# Altium schematic symbol library RF_Mixer.SchLib: 8 symbols
Pins are listed as number, name and electrical type; pins without a type are passive.

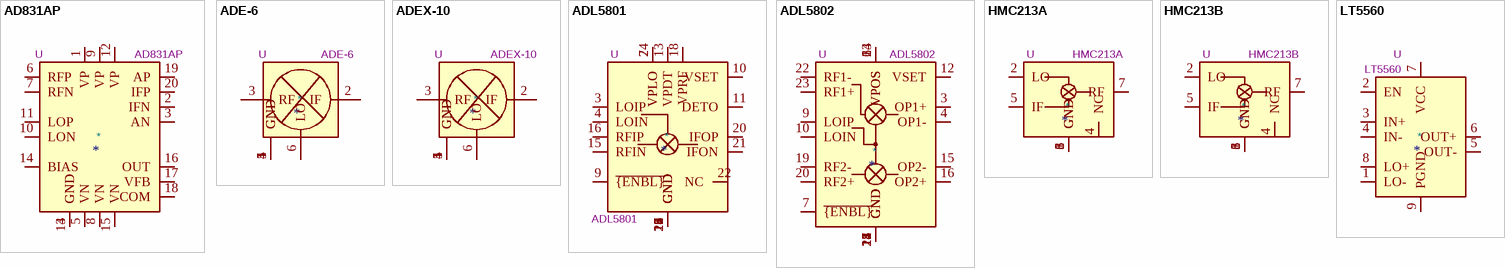
[diagram p0: symbols AD831AP to LT5560]

## AD831AP
designator *  value AD831AP  Reference: U
Doubly Balanced monolithic Mixer, 500 MHz BW, +24 dBm, IP3, LNA and LO driver, PLCC-20; ki_keywords: mixer rf; ki_fp_filters: PLCC*; Footprint: Package_LCC:PLCC-20; Datasheet: https://www.analog.com/media/en/technical-documentation/data-sheets/AD831.pdf; Description_: Doubly Balanced monolithic Mixer, 500 MHz BW, +24 dBm, IP3, LNA and LO driver, PLCC-20
pins: 1 VP, 2 IFN, 3 AN, 4 GND, 5 VN, 6 RFP, 7 RFN, 8 VN, 9 VP, 10 LON, 11 LOP, 12 VP, 13 GND, 14 BIAS, 15 VN, 16 OUT, 17 VFB, 18 COM, 19 AP, 20 IFP

## ADE-6
designator *  value ADE-6  Reference: U
Mixer, +7 dBm LO, 0.05 to 250 MHz, CD542; ki_keywords: mixer rf; ki_fp_filters: Mini?Circuits*CD542*; Footprint: RF_Mini-Circuits:Mini-Circuits_CD542_LandPatternPL-052; Datasheet: https://www.minicircuits.com/pdfs/ADE-6.pdf; Description_: Mixer, +7 dBm LO, 0.05 to 250 MHz, CD542
pins: 1 GND, 2 IF, 3 RF, 4 GND, 5 GND, 6 LO

## ADEX-10
designator *  value ADEX-10  Reference: U
Mixer, +7 dBm LO, 10 to 1000 MHz, CD542; ki_keywords: mixer rf; ki_fp_filters: Mini?Circuits*CD542*; Footprint: RF_Mini-Circuits:Mini-Circuits_CD542_LandPatternPL-052; Datasheet: https://www.minicircuits.com/pdfs/ADEX-10.pdf; Description_: Mixer, +7 dBm LO, 10 to 1000 MHz, CD542
pins: 1 GND, 2 IF, 3 RF, 4 GND, 5 GND, 6 LO

## ADL5801
designator *  value ADL5801  Reference: U
10 MHz to 6 GHz Active Mixer, LFCSP-24; ki_keywords: mixer active; ki_fp_filters: LFCSP*1EP*4x4mm*P0.5mm*; Footprint: Package_CSP:LFCSP-VQ-24-1EP_4x4mm_P0.5mm_EP2.642x2.642mm; Datasheet: https://www.analog.com/media/en/technical-documentation/data-sheets/ADL5801.pdf; Description_: 10 MHz to 6 GHz Active Mixer, LFCSP-24
pins: 1 GND, 2 GND, 3 LOIP, 4 LOIN, 5 GND, 6 GND, 7 VPLO, 8 GND, 9 ~{{ENBL}}, 10 VSET, 11 DETO, 12 GND, 13 VPDT, 14 GND, 15 RFIN, 16 RFIP, 17 GND, 18 VPRF, 19 GND, 20 IFOP, 21 IFON, 22 NC, 23 GND, 24 VPLO, 25 GND

## ADL5802
designator *  value ADL5802  Reference: U
100 MHz to 6 GHz Dual Channel Active Mixer, LFCSP-24; ki_keywords: mixer rf; ki_fp_filters: LFCSP*1EP*4x4mm*P0.5mm*; Footprint: Package_CSP:LFCSP-24-1EP_4x4mm_P0.5mm_EP2.5x2.5mm; Datasheet: https://www.analog.com/media/en/technical-documentation/data-sheets/ADL5802.pdf; Description_: 100 MHz to 6 GHz Dual Channel Active Mixer, LFCSP-24
pins: 1 GND, 2 GND, 3 OP1+, 4 OP1-, 5 GND, 6 VPOS, 7 ~{{ENBL}}, 8 GND, 9 LOIP, 10 LOIN, 11 GND, 12 VSET, 13 VPOS, 14 GND, 15 OP2-, 16 OP2+, 17 GND, 18 GND, 19 RF2-, 20 RF2+, 21 GND, 22 RF1-, 23 RF1+, 24 VPOS, 25 GND

## HMC213A
designator *  value HMC213A  Reference: U
1.5-4.5GHz double-balanced mixer, MS8; ki_keywords: mixer active; ki_fp_filters: MSOP*3x3mm*P0.65mm*; Footprint: Package_SO:MSOP-8_3x3mm_P0.65mm; Datasheet: https://www.analog.com/media/en/technical-documentation/data-sheets/hmc213a.pdf; Description_: 1.5-4.5GHz double-balanced mixer, MS8
pins: 1 GND, 2 LO, 3 GND, 4 NC, 5 IF, 6 GND, 7 RF, 8 GND

## HMC213B
designator *  value HMC213B  Reference: U
1.5-4.5GHz double-balanced mixer, MS8; ki_keywords: mixer active; ki_fp_filters: MSOP*3x3mm*P0.65mm*; Footprint: Package_SO:MSOP-8_3x3mm_P0.65mm; Datasheet: https://www.analog.com/media/en/technical-documentation/data-sheets/hmc213B.pdf; Description_: 1.5-4.5GHz double-balanced mixer, MS8
pins: 1 GND, 2 LO, 3 GND, 4 NC, 5 IF, 6 GND, 7 RF, 8 GND

## LT5560
designator *  value LT5560  Reference: U
0.01MHz to 4GHz Low Power Active Mixer, DFN-8; ki_keywords: rf mixer; ki_fp_filters: DFN*3x3mm*P0.5mm*; Footprint: Package_DFN_QFN:DFN-8-1EP_3x3mm_P0.5mm_EP1.66x2.38mm; Datasheet: https://www.analog.com/media/en/technical-documentation/data-sheets/5560f.pdf; Description_: 0.01MHz to 4GHz Low Power Active Mixer, DFN-8
pins: 1 LO-, 2 EN, 3 IN+, 4 IN-, 5 OUT-, 6 OUT+, 7 VCC, 8 LO+, 9 PGND